# Altium integrated library NSC Switcher.IntLib: 889 symbols (part 7 of 23)
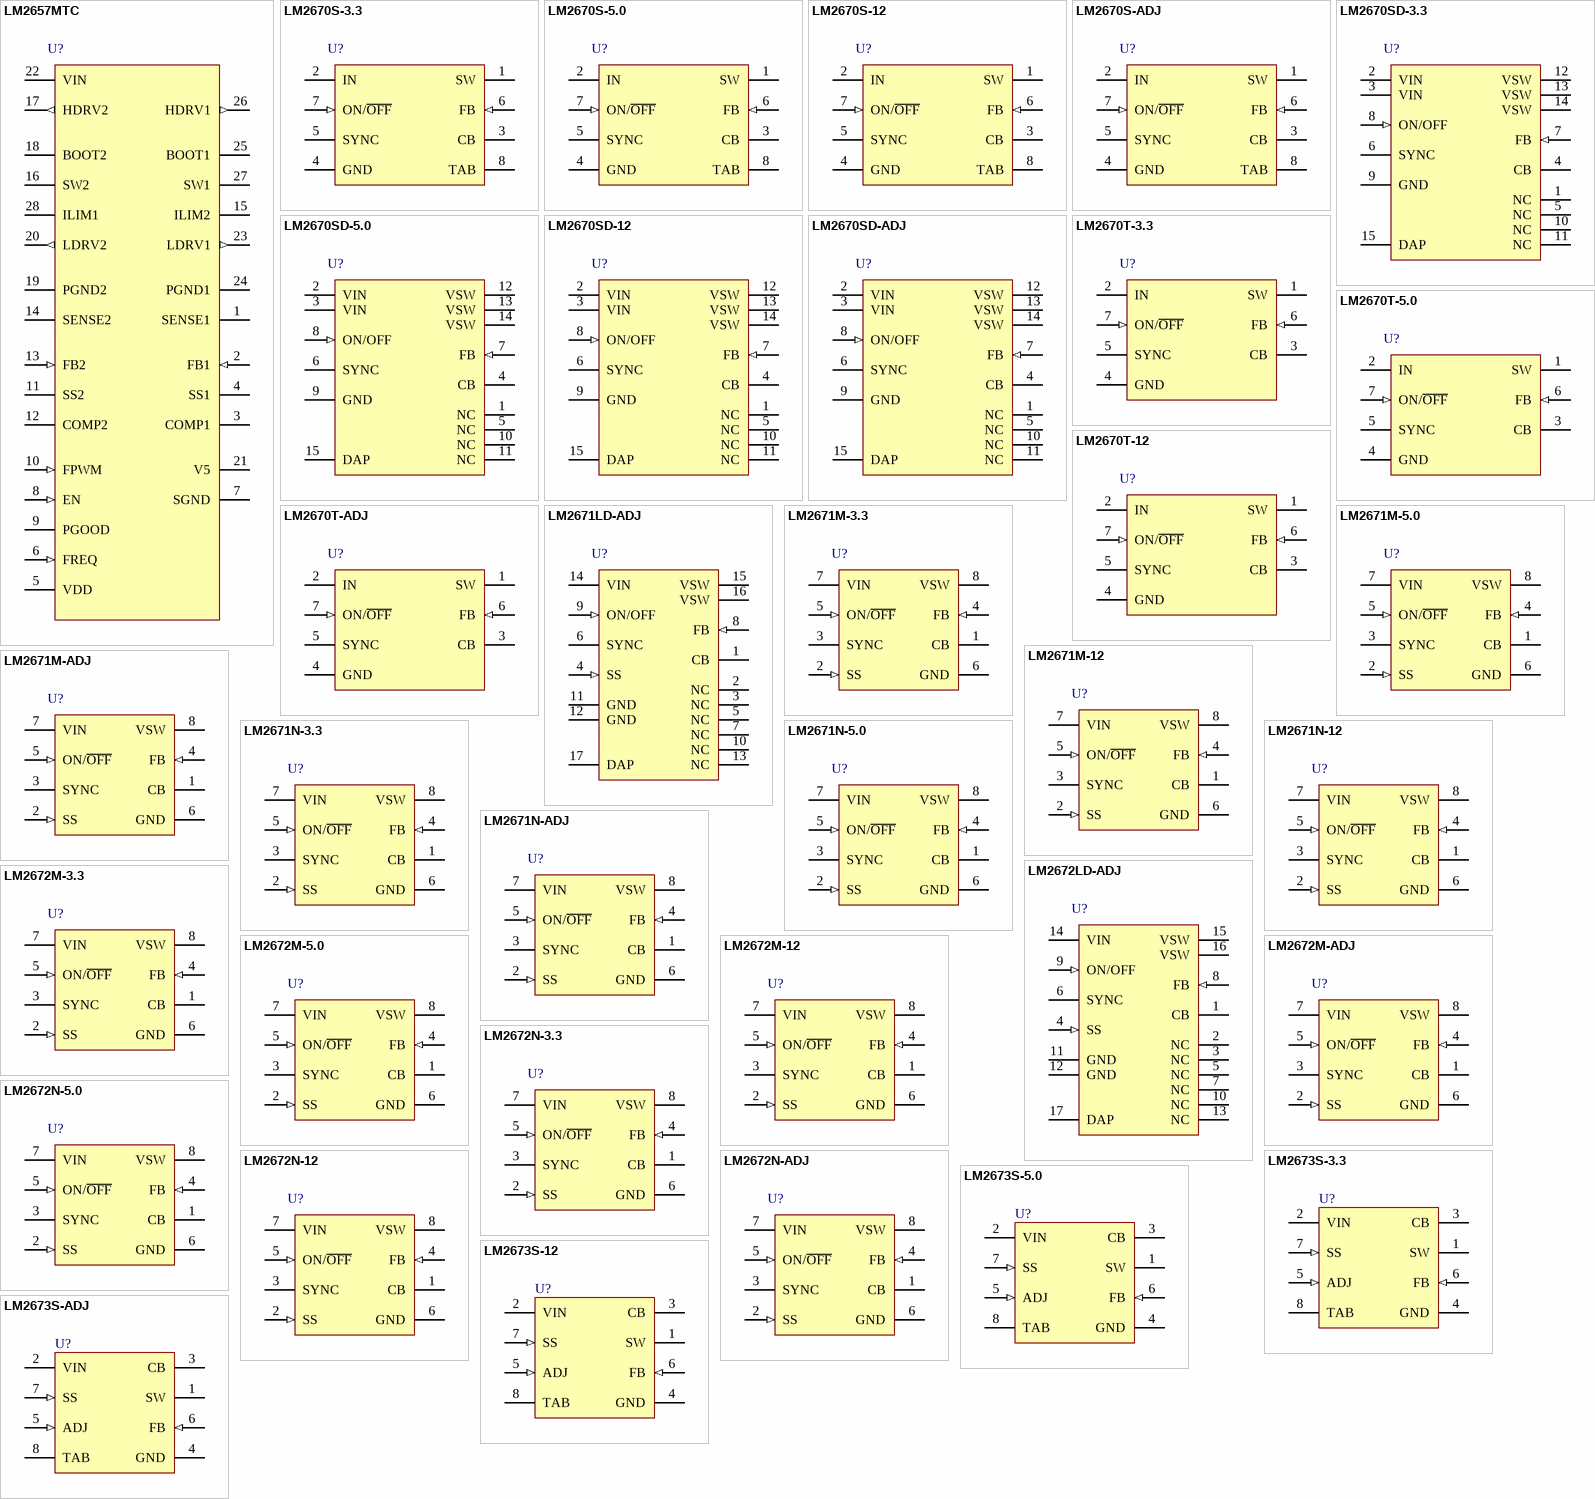
[diagram p33: symbols LM2657MTC to LM2673S-ADJ]

## LM2670SD-ADJ
designator U?
SIMPLE SWITCHER High Efficiency 3A Step-Down Voltage Regulator with Sync; PartNumber: LM2670SD-ADJ; Manufacturer: National Semiconductor; PackageTopMarking: NS*UZXYTT*S0002RB; PowerWise: N; Published: 4-Dec-2008; DatasheetVersion: Feb-2008; PackageVersion: revA, Jul-2003; PackageReference: SRC14A; Publisher: Altium Limited; PackageDescription: LLP, Plastic, Dual, 6 x 5 x 1mm Body, 14 Lead, 0.8mm Pitch, No Pullback; CompType: Switcher; RoHS: Y; PinCount: 14; DigiKeyPartNumber: LM2670SD-ADJCT-ND; ComponentLink1Description: LM2670 Datasheet; ComponentLink1URL: http://www.national.com/ds/LM/LM2670.pdf; ComponentLink2Description: LM2670 Web Page; ComponentLink2URL: http://www.national.com/pf/LM/LM2670.html; ComponentLink3Description: SRC14A Package Page; ComponentLink3URL: http://www.national.com/packaging/folders/src14a.html
footprint SRC14A (SON, 14-Leads, Body 6x5 mm, Pitch 0.8mm, NSC Recommended)
pins: 1 NC, 2 VIN (power), 3 VIN (power), 4 CB, 5 NC, 6 SYNC, 7 FB (in), 8 ON/OFF (in), 9 GND (power), 10 NC, 11 NC, 12 VSW (power), 13 VSW (power), 14 VSW (power), 15 DAP

## LM2670T-3.3
designator U?
SIMPLE SWITCHER High Efficiency 3A Step-Down Voltage Regulator with Sync; PartNumber: LM2670T-3.3; Manufacturer: National Semiconductor; PackageTopMarking: NSUZXYTT*LM2670*T-3.3; PowerWise: N; Published: 4-Dec-2008; DatasheetVersion: Feb-2008; PackageVersion: revC, Apr-1999; PackageReference: TA07B; Publisher: Altium Limited; PackageDescription: TO-220, Molded, .400 x .590 x .180in Body, 7 Lead, .050in Pitch, Staggered; CompType: Switcher; RoHS: Y; PinCount: 7; DigiKeyPartNumber: LM2670T-3.3-ND; Code_JEDEC: TO-220-AB; ComponentLink1Description: LM2670 Datasheet; ComponentLink1URL: http://www.national.com/ds/LM/LM2670.pdf; ComponentLink2Description: LM2670 Web Page; ComponentLink2URL: http://www.national.com/pf/LM/LM2670.html; ComponentLink3Description: TA07B Package Page; ComponentLink3URL: http://www.national.com/packaging/folders/ta07b.html
footprint TA07B (TO, Thru-Hole, Vertical, Heatsink Mounted; 7 Bent Staggered Leads; Pitch 1.27 mm)
pins: 1 SW (power), 2 IN (power), 3 CB, 4 GND (power), 5 SYNC, 6 FB (in), 7 ON/~{OFF} (in)

## LM2670T-5.0
designator U?
SIMPLE SWITCHER High Efficiency 3A Step-Down Voltage Regulator with Sync; PartNumber: LM2670T-5.0; Manufacturer: National Semiconductor; PackageTopMarking: NSUZXYTT*LM2670*T-5.0; PowerWise: N; Published: 4-Dec-2008; DatasheetVersion: Feb-2008; PackageVersion: revC, Apr-1999; PackageReference: TA07B; Publisher: Altium Limited; PackageDescription: TO-220, Molded, .400 x .590 x .180in Body, 7 Lead, .050in Pitch, Staggered; CompType: Switcher; RoHS: O; PinCount: 7; DigiKeyPartNumber: LM2670T-5.0-ND; Code_JEDEC: TO-220-AB; ComponentLink1Description: LM2670 Datasheet; ComponentLink1URL: http://www.national.com/ds/LM/LM2670.pdf; ComponentLink2Description: LM2670 Web Page; ComponentLink2URL: http://www.national.com/pf/LM/LM2670.html; ComponentLink3Description: TA07B Package Page; ComponentLink3URL: http://www.national.com/packaging/folders/ta07b.html
footprint TA07B (TO, Thru-Hole, Vertical, Heatsink Mounted; 7 Bent Staggered Leads; Pitch 1.27 mm)
pins: 1 SW (power), 2 IN (power), 3 CB, 4 GND (power), 5 SYNC, 6 FB (in), 7 ON/~{OFF} (in)

## LM2670T-12
designator U?
SIMPLE SWITCHER High Efficiency 3A Step-Down Voltage Regulator with Sync; PartNumber: LM2670T-12; Manufacturer: National Semiconductor; PackageTopMarking: NSUZXYTT*LM2670*T-12; PowerWise: N; Published: 4-Dec-2008; DatasheetVersion: Feb-2008; PackageVersion: revC, Apr-1999; PackageReference: TA07B; Publisher: Altium Limited; PackageDescription: TO-220, Molded, .400 x .590 x .180in Body, 7 Lead, .050in Pitch, Staggered; CompType: Switcher; RoHS: Y; PinCount: 7; DigiKeyPartNumber: LM2670T-12-ND; Code_JEDEC: TO-220-AB; ComponentLink1Description: LM2670 Datasheet; ComponentLink1URL: http://www.national.com/ds/LM/LM2670.pdf; ComponentLink2Description: LM2670 Web Page; ComponentLink2URL: http://www.national.com/pf/LM/LM2670.html; ComponentLink3Description: TA07B Package Page; ComponentLink3URL: http://www.national.com/packaging/folders/ta07b.html
footprint TA07B (TO, Thru-Hole, Vertical, Heatsink Mounted; 7 Bent Staggered Leads; Pitch 1.27 mm)
pins: 1 SW (power), 2 IN (power), 3 CB, 4 GND (power), 5 SYNC, 6 FB (in), 7 ON/~{OFF} (in)

## LM2670T-ADJ
designator U?
SIMPLE SWITCHER High Efficiency 3A Step-Down Voltage Regulator with Sync; PartNumber: LM2670T-ADJ; Manufacturer: National Semiconductor; PackageTopMarking: NSUZXYTT*LM2670*T-ADJ; PowerWise: N; Published: 4-Dec-2008; DatasheetVersion: Feb-2008; PackageVersion: revC, Apr-1999; PackageReference: TA07B; Publisher: Altium Limited; PackageDescription: TO-220, Molded, .400 x .590 x .180in Body, 7 Lead, .050in Pitch, Staggered; CompType: Switcher; RoHS: Y; PinCount: 7; DigiKeyPartNumber: LM2670T-ADJ-ND; Code_JEDEC: TO-220-AB; ComponentLink1Description: LM2670 Datasheet; ComponentLink1URL: http://www.national.com/ds/LM/LM2670.pdf; ComponentLink2Description: LM2670 Web Page; ComponentLink2URL: http://www.national.com/pf/LM/LM2670.html; ComponentLink3Description: TA07B Package Page; ComponentLink3URL: http://www.national.com/packaging/folders/ta07b.html
footprint TA07B (TO, Thru-Hole, Vertical, Heatsink Mounted; 7 Bent Staggered Leads; Pitch 1.27 mm)
pins: 1 SW (power), 2 IN (power), 3 CB, 4 GND (power), 5 SYNC, 6 FB (in), 7 ON/~{OFF} (in)

## LM2671LD-ADJ
designator U?
SIMPLE SWITCHER Power Converter High Efficiency 500mA Step-Down Voltage Regulator with Features; PartNumber: LM2671LD-ADJ; Manufacturer: National Semiconductor; PackageTopMarking: NS*UZXYTT*S0008B; PowerWise: N; Published: 4-Dec-2008; DatasheetVersion: Apr-2007; PackageVersion: revA, Nov-2000; PackageReference: LDA16A; Publisher: Altium Limited; PackageDescription: LLP, Plastic, Dual, 5 x 5 x 0.75mm Body, 16 Lead, 0.5mm Pitch; CompType: Switcher; RoHS: O; PinCount: 16; DigiKeyPartNumber: LM2671LD-ADJCT-ND; ComponentLink1Description: LM2671 Datasheet; ComponentLink1URL: http://www.national.com/ds/LM/LM2671.pdf; ComponentLink2Description: LM2671 Web Page; ComponentLink2URL: http://www.national.com/pf/LM/LM2671.html; ComponentLink3Description: LDA16A Package Page; ComponentLink3URL: http://www.national.com/packaging/folders/lda16a.html
footprint LDA16A (PSON, 16-Leads, Body 5x5 mm, Pitch 0.5mm, NSC Recommended)
pins: 1 CB, 2 NC, 3 NC, 4 SS (in), 5 NC, 6 SYNC, 7 NC, 8 FB (in), 9 ON/OFF (in), 10 NC, 11 GND (power), 12 GND (power), 13 NC, 14 VIN (power), 15 VSW (power), 16 VSW (power), 17 DAP

## LM2671M-3.3
designator U?
SIMPLE SWITCHER Power Converter High Efficiency 500mA Step-Down Voltage Regulator with Features; PartNumber: LM2671M-3.3; Manufacturer: National Semiconductor; PackageTopMarking: NSZXTT*2671*M3.3; PowerWise: N; Published: 4-Dec-2008; DatasheetVersion: Apr-2007; PackageVersion: revL, Sep-2006; PackageReference: M08A; Publisher: Altium Limited; PackageDescription: SOIC Narrow, 4.9 x 3.9 x 1.45mm, 8 Lead, 1.27mm Pitch; CompType: Switcher; RoHS: O; PinCount: 8; DigiKeyPartNumber: LM2671M-3.3-ND; Code_JEDEC: MS-012-AA; Code_IPC: SOIC127P600-8; ComponentLink1Description: LM2671 Datasheet; ComponentLink1URL: http://www.national.com/ds/LM/LM2671.pdf; ComponentLink2Description: LM2671 Web Page; ComponentLink2URL: http://www.national.com/pf/LM/LM2671.html; ComponentLink3Description: M08A Package Page; ComponentLink3URL: http://www.national.com/packaging/folders/m08a.html
footprint M08A_N (SOIC, 8-Leads, Body 4.9x3.9mm, Pitch 1.27mm, IPC Medium Density)
footprint M08A_L (SOIC, 8-Leads, Body 4.9x3.9mm, Pitch 1.27mm, IPC High Density)
footprint M08A_M (SOIC, 8-Leads, Body 4.9x3.9mm, Pitch 1.27mm, IPC Low Density)
pins: 1 CB, 2 SS (in), 3 SYNC, 4 FB (in), 5 ON/~{OFF} (in), 6 GND (power), 7 VIN (power), 8 VSW (power)

## LM2671M-5.0
designator U?
SIMPLE SWITCHER Power Converter High Efficiency 500mA Step-Down Voltage Regulator with Features; PartNumber: LM2671M-5.0; Manufacturer: National Semiconductor; PackageTopMarking: NSZXTT*2671*M5.0; PowerWise: N; Published: 4-Dec-2008; DatasheetVersion: Apr-2007; PackageVersion: revL, Sep-2006; PackageReference: M08A; Publisher: Altium Limited; PackageDescription: SOIC Narrow, 4.9 x 3.9 x 1.45mm, 8 Lead, 1.27mm Pitch; CompType: Switcher; RoHS: O; PinCount: 8; DigiKeyPartNumber: LM2671M-5.0-ND; Code_JEDEC: MS-012-AA; Code_IPC: SOIC127P600-8; ComponentLink1Description: LM2671 Datasheet; ComponentLink1URL: http://www.national.com/ds/LM/LM2671.pdf; ComponentLink2Description: LM2671 Web Page; ComponentLink2URL: http://www.national.com/pf/LM/LM2671.html; ComponentLink3Description: M08A Package Page; ComponentLink3URL: http://www.national.com/packaging/folders/m08a.html
footprint M08A_N (SOIC, 8-Leads, Body 4.9x3.9mm, Pitch 1.27mm, IPC Medium Density)
footprint M08A_L (SOIC, 8-Leads, Body 4.9x3.9mm, Pitch 1.27mm, IPC High Density)
footprint M08A_M (SOIC, 8-Leads, Body 4.9x3.9mm, Pitch 1.27mm, IPC Low Density)
pins: 1 CB, 2 SS (in), 3 SYNC, 4 FB (in), 5 ON/~{OFF} (in), 6 GND (power), 7 VIN (power), 8 VSW (power)

## LM2671M-12
designator U?
SIMPLE SWITCHER Power Converter High Efficiency 500mA Step-Down Voltage Regulator with Features; PartNumber: LM2671M-12; Manufacturer: National Semiconductor; PackageTopMarking: NSZXTT*2671*M-12; PowerWise: N; Published: 4-Dec-2008; DatasheetVersion: Apr-2007; PackageVersion: revL, Sep-2006; PackageReference: M08A; Publisher: Altium Limited; PackageDescription: SOIC Narrow, 4.9 x 3.9 x 1.45mm, 8 Lead, 1.27mm Pitch; CompType: Switcher; RoHS: O; PinCount: 8; DigiKeyPartNumber: LM2671M-12-ND; Code_JEDEC: MS-012-AA; Code_IPC: SOIC127P600-8; ComponentLink1Description: LM2671 Datasheet; ComponentLink1URL: http://www.national.com/ds/LM/LM2671.pdf; ComponentLink2Description: LM2671 Web Page; ComponentLink2URL: http://www.national.com/pf/LM/LM2671.html; ComponentLink3Description: M08A Package Page; ComponentLink3URL: http://www.national.com/packaging/folders/m08a.html
footprint M08A_N (SOIC, 8-Leads, Body 4.9x3.9mm, Pitch 1.27mm, IPC Medium Density)
footprint M08A_L (SOIC, 8-Leads, Body 4.9x3.9mm, Pitch 1.27mm, IPC High Density)
footprint M08A_M (SOIC, 8-Leads, Body 4.9x3.9mm, Pitch 1.27mm, IPC Low Density)
pins: 1 CB, 2 SS (in), 3 SYNC, 4 FB (in), 5 ON/~{OFF} (in), 6 GND (power), 7 VIN (power), 8 VSW (power)

## LM2671M-ADJ
designator U?
SIMPLE SWITCHER Power Converter High Efficiency 500mA Step-Down Voltage Regulator with Features; PartNumber: LM2671M-ADJ; Manufacturer: National Semiconductor; PackageTopMarking: NSZXTT*2671*MADJ; PowerWise: N; Published: 4-Dec-2008; DatasheetVersion: Apr-2007; PackageVersion: revL, Sep-2006; PackageReference: M08A; Publisher: Altium Limited; PackageDescription: SOIC Narrow, 4.9 x 3.9 x 1.45mm, 8 Lead, 1.27mm Pitch; CompType: Switcher; RoHS: O; PinCount: 8; DigiKeyPartNumber: LM2671M-ADJ-ND; Code_JEDEC: MS-012-AA; Code_IPC: SOIC127P600-8; ComponentLink1Description: LM2671 Datasheet; ComponentLink1URL: http://www.national.com/ds/LM/LM2671.pdf; ComponentLink2Description: LM2671 Web Page; ComponentLink2URL: http://www.national.com/pf/LM/LM2671.html; ComponentLink3Description: M08A Package Page; ComponentLink3URL: http://www.national.com/packaging/folders/m08a.html
footprint M08A_N (SOIC, 8-Leads, Body 4.9x3.9mm, Pitch 1.27mm, IPC Medium Density)
footprint M08A_L (SOIC, 8-Leads, Body 4.9x3.9mm, Pitch 1.27mm, IPC High Density)
footprint M08A_M (SOIC, 8-Leads, Body 4.9x3.9mm, Pitch 1.27mm, IPC Low Density)
pins: 1 CB, 2 SS (in), 3 SYNC, 4 FB (in), 5 ON/~{OFF} (in), 6 GND (power), 7 VIN (power), 8 VSW (power)

## LM2671N-3.3
designator U?
SIMPLE SWITCHER Power Converter High Efficiency 500mA Step-Down Voltage Regulator with Features; PartNumber: LM2671N-3.3; Manufacturer: National Semiconductor; PackageTopMarking: NSUZXYTT*LM2671*N-3.3; PowerWise: N; Published: 4-Dec-2008; DatasheetVersion: Apr-2007; PackageVersion: revG, May-2006; PackageReference: N08E; Publisher: Altium Limited; PackageDescription: MDIP, .365 x .250 x .130in, 8 Lead, .100in Pitch; CompType: Switcher; RoHS: Y; PinCount: 8; DigiKeyPartNumber: LM2671N-3.3-ND; Code_JEDEC: MS-001-BA; ComponentLink1Description: LM2671 Datasheet; ComponentLink1URL: http://www.national.com/ds/LM/LM2671.pdf; ComponentLink2Description: LM2671 Web Page; ComponentLink2URL: http://www.national.com/pf/LM/LM2671.html; ComponentLink3Description: N08E Package Page; ComponentLink3URL: http://www.national.com/packaging/folders/n08e.html
footprint N08E (DIP, 8-Leads, Row Spacing 7.62mm, Pitch 2.54mm, Body 9.91x6.35mm)
pins: 1 CB, 2 SS (in), 3 SYNC, 4 FB (in), 5 ON/~{OFF} (in), 6 GND (power), 7 VIN (power), 8 VSW (power)

## LM2671N-5.0
designator U?
SIMPLE SWITCHER Power Converter High Efficiency 500mA Step-Down Voltage Regulator with Features; PartNumber: LM2671N-5.0; Manufacturer: National Semiconductor; PackageTopMarking: NSUZXYTT*LM2671*N-5.0; PowerWise: N; Published: 4-Dec-2008; DatasheetVersion: Apr-2007; PackageVersion: revG, May-2006; PackageReference: N08E; Publisher: Altium Limited; PackageDescription: MDIP, .365 x .250 x .130in, 8 Lead, .100in Pitch; CompType: Switcher; RoHS: O; PinCount: 8; DigiKeyPartNumber: LM2671N-5.0-ND; Code_JEDEC: MS-001-BA; ComponentLink1Description: LM2671 Datasheet; ComponentLink1URL: http://www.national.com/ds/LM/LM2671.pdf; ComponentLink2Description: LM2671 Web Page; ComponentLink2URL: http://www.national.com/pf/LM/LM2671.html; ComponentLink3Description: N08E Package Page; ComponentLink3URL: http://www.national.com/packaging/folders/n08e.html
footprint N08E (DIP, 8-Leads, Row Spacing 7.62mm, Pitch 2.54mm, Body 9.91x6.35mm)
pins: 1 CB, 2 SS (in), 3 SYNC, 4 FB (in), 5 ON/~{OFF} (in), 6 GND (power), 7 VIN (power), 8 VSW (power)

## LM2671N-12
designator U?
SIMPLE SWITCHER Power Converter High Efficiency 500mA Step-Down Voltage Regulator with Features; PartNumber: LM2671N-12; Manufacturer: National Semiconductor; PackageTopMarking: NSUZXYTT*LM2671*N-12; PowerWise: N; Published: 4-Dec-2008; DatasheetVersion: Apr-2007; PackageVersion: revG, May-2006; PackageReference: N08E; Publisher: Altium Limited; PackageDescription: MDIP, .365 x .250 x .130in, 8 Lead, .100in Pitch; CompType: Switcher; RoHS: Y; PinCount: 8; DigiKeyPartNumber: LM2671N-12-ND; Code_JEDEC: MS-001-BA; ComponentLink1Description: LM2671 Datasheet; ComponentLink1URL: http://www.national.com/ds/LM/LM2671.pdf; ComponentLink2Description: LM2671 Web Page; ComponentLink2URL: http://www.national.com/pf/LM/LM2671.html; ComponentLink3Description: N08E Package Page; ComponentLink3URL: http://www.national.com/packaging/folders/n08e.html
footprint N08E (DIP, 8-Leads, Row Spacing 7.62mm, Pitch 2.54mm, Body 9.91x6.35mm)
pins: 1 CB, 2 SS (in), 3 SYNC, 4 FB (in), 5 ON/~{OFF} (in), 6 GND (power), 7 VIN (power), 8 VSW (power)

## LM2671N-ADJ
designator U?
SIMPLE SWITCHER Power Converter High Efficiency 500mA Step-Down Voltage Regulator with Features; PartNumber: LM2671N-ADJ; Manufacturer: National Semiconductor; PackageTopMarking: NSUZXYTT*LM2671*N-ADJ; PowerWise: N; Published: 4-Dec-2008; DatasheetVersion: Apr-2007; PackageVersion: revG, May-2006; PackageReference: N08E; Publisher: Altium Limited; PackageDescription: MDIP, .365 x .250 x .130in, 8 Lead, .100in Pitch; CompType: Switcher; RoHS: O; PinCount: 8; DigiKeyPartNumber: LM2671N-ADJ-ND; Code_JEDEC: MS-001-BA; ComponentLink1Description: LM2671 Datasheet; ComponentLink1URL: http://www.national.com/ds/LM/LM2671.pdf; ComponentLink2Description: LM2671 Web Page; ComponentLink2URL: http://www.national.com/pf/LM/LM2671.html; ComponentLink3Description: N08E Package Page; ComponentLink3URL: http://www.national.com/packaging/folders/n08e.html
footprint N08E (DIP, 8-Leads, Row Spacing 7.62mm, Pitch 2.54mm, Body 9.91x6.35mm)
pins: 1 CB, 2 SS (in), 3 SYNC, 4 FB (in), 5 ON/~{OFF} (in), 6 GND (power), 7 VIN (power), 8 VSW (power)

## LM2672LD-ADJ
designator U?
SIMPLE SWITCHER Power Converter High Efficiency 1A Step-Down Voltage Regulator with Features; PartNumber: LM2672LD-ADJ; Manufacturer: National Semiconductor; PackageTopMarking: NS*UZXYTT*S0004B; PowerWise: N; Published: 4-Dec-2008; DatasheetVersion: Apr-2007; PackageVersion: revA, Nov-2000; PackageReference: LDA16A; Publisher: Altium Limited; PackageDescription: LLP, Plastic, Dual, 5 x 5 x 0.75mm Body, 16 Lead, 0.5mm Pitch; CompType: Switcher; RoHS: O; PinCount: 16; DigiKeyPartNumber: LM2672LD-ADJCT-ND; ComponentLink1Description: LM2672 Datasheet; ComponentLink1URL: http://www.national.com/ds/LM/LM2672.pdf; ComponentLink2Description: LM2672 Web Page; ComponentLink2URL: http://www.national.com/pf/LM/LM2672.html; ComponentLink3Description: LDA16A Package Page; ComponentLink3URL: http://www.national.com/packaging/folders/lda16a.html
footprint LDA16A (PSON, 16-Leads, Body 5x5 mm, Pitch 0.5mm, NSC Recommended)
pins: 1 CB, 2 NC, 3 NC, 4 SS (in), 5 NC, 6 SYNC, 7 NC, 8 FB (in), 9 ON/OFF (in), 10 NC, 11 GND (power), 12 GND (power), 13 NC, 14 VIN (power), 15 VSW (power), 16 VSW (power), 17 DAP

## LM2672M-3.3
designator U?
SIMPLE SWITCHER Power Converter High Efficiency 1A Step-Down Voltage Regulator with Features; PartNumber: LM2672M-3.3; Manufacturer: National Semiconductor; PackageTopMarking: NSZXTT*2672*M3.3; PowerWise: N; Published: 4-Dec-2008; DatasheetVersion: Apr-2007; PackageVersion: revL, Sep-2006; PackageReference: M08A; Publisher: Altium Limited; PackageDescription: SOIC Narrow, 4.9 x 3.9 x 1.45mm, 8 Lead, 1.27mm Pitch; CompType: Switcher; RoHS: O; PinCount: 8; DigiKeyPartNumber: LM2672M-3.3-ND; Code_JEDEC: MS-012-AA; Code_IPC: SOIC127P600-8; ComponentLink1Description: LM2672 Datasheet; ComponentLink1URL: http://www.national.com/ds/LM/LM2672.pdf; ComponentLink2Description: LM2672 Web Page; ComponentLink2URL: http://www.national.com/pf/LM/LM2672.html; ComponentLink3Description: M08A Package Page; ComponentLink3URL: http://www.national.com/packaging/folders/m08a.html
footprint M08A_N (SOIC, 8-Leads, Body 4.9x3.9mm, Pitch 1.27mm, IPC Medium Density)
footprint M08A_L (SOIC, 8-Leads, Body 4.9x3.9mm, Pitch 1.27mm, IPC High Density)
footprint M08A_M (SOIC, 8-Leads, Body 4.9x3.9mm, Pitch 1.27mm, IPC Low Density)
pins: 1 CB, 2 SS (in), 3 SYNC, 4 FB (in), 5 ON/~{OFF} (in), 6 GND (power), 7 VIN (power), 8 VSW (power)

## LM2672M-5.0
designator U?
SIMPLE SWITCHER Power Converter High Efficiency 1A Step-Down Voltage Regulator with Features; PartNumber: LM2672M-5.0; Manufacturer: National Semiconductor; PackageTopMarking: NSZXTT*2672*M5.0; PowerWise: N; Published: 4-Dec-2008; DatasheetVersion: Apr-2007; PackageVersion: revL, Sep-2006; PackageReference: M08A; Publisher: Altium Limited; PackageDescription: SOIC Narrow, 4.9 x 3.9 x 1.45mm, 8 Lead, 1.27mm Pitch; CompType: Switcher; RoHS: O; PinCount: 8; DigiKeyPartNumber: LM2672M-5.0-ND; Code_JEDEC: MS-012-AA; Code_IPC: SOIC127P600-8; ComponentLink1Description: LM2672 Datasheet; ComponentLink1URL: http://www.national.com/ds/LM/LM2672.pdf; ComponentLink2Description: LM2672 Web Page; ComponentLink2URL: http://www.national.com/pf/LM/LM2672.html; ComponentLink3Description: M08A Package Page; ComponentLink3URL: http://www.national.com/packaging/folders/m08a.html
footprint M08A_N (SOIC, 8-Leads, Body 4.9x3.9mm, Pitch 1.27mm, IPC Medium Density)
footprint M08A_L (SOIC, 8-Leads, Body 4.9x3.9mm, Pitch 1.27mm, IPC High Density)
footprint M08A_M (SOIC, 8-Leads, Body 4.9x3.9mm, Pitch 1.27mm, IPC Low Density)
pins: 1 CB, 2 SS (in), 3 SYNC, 4 FB (in), 5 ON/~{OFF} (in), 6 GND (power), 7 VIN (power), 8 VSW (power)

## LM2672M-12
designator U?
SIMPLE SWITCHER Power Converter High Efficiency 1A Step-Down Voltage Regulator with Features; PartNumber: LM2672M-12; Manufacturer: National Semiconductor; PackageTopMarking: NSZXTT*2672*M-12; PowerWise: N; Published: 4-Dec-2008; DatasheetVersion: Apr-2007; PackageVersion: revL, Sep-2006; PackageReference: M08A; Publisher: Altium Limited; PackageDescription: SOIC Narrow, 4.9 x 3.9 x 1.45mm, 8 Lead, 1.27mm Pitch; CompType: Switcher; RoHS: O; PinCount: 8; DigiKeyPartNumber: LM2672M-12-ND; Code_JEDEC: MS-012-AA; Code_IPC: SOIC127P600-8; ComponentLink1Description: LM2672 Datasheet; ComponentLink1URL: http://www.national.com/ds/LM/LM2672.pdf; ComponentLink2Description: LM2672 Web Page; ComponentLink2URL: http://www.national.com/pf/LM/LM2672.html; ComponentLink3Description: M08A Package Page; ComponentLink3URL: http://www.national.com/packaging/folders/m08a.html
footprint M08A_N (SOIC, 8-Leads, Body 4.9x3.9mm, Pitch 1.27mm, IPC Medium Density)
footprint M08A_L (SOIC, 8-Leads, Body 4.9x3.9mm, Pitch 1.27mm, IPC High Density)
footprint M08A_M (SOIC, 8-Leads, Body 4.9x3.9mm, Pitch 1.27mm, IPC Low Density)
pins: 1 CB, 2 SS (in), 3 SYNC, 4 FB (in), 5 ON/~{OFF} (in), 6 GND (power), 7 VIN (power), 8 VSW (power)

## LM2672M-ADJ
designator U?
SIMPLE SWITCHER Power Converter High Efficiency 1A Step-Down Voltage Regulator with Features; PartNumber: LM2672M-ADJ; Manufacturer: National Semiconductor; PackageTopMarking: NSZXTT*2672*MADJ; PowerWise: N; Published: 4-Dec-2008; DatasheetVersion: Apr-2007; PackageVersion: revL, Sep-2006; PackageReference: M08A; Publisher: Altium Limited; PackageDescription: SOIC Narrow, 4.9 x 3.9 x 1.45mm, 8 Lead, 1.27mm Pitch; CompType: Switcher; RoHS: O; PinCount: 8; DigiKeyPartNumber: LM2672M-ADJ-ND; Code_JEDEC: MS-012-AA; Code_IPC: SOIC127P600-8; ComponentLink1Description: LM2672 Datasheet; ComponentLink1URL: http://www.national.com/ds/LM/LM2672.pdf; ComponentLink2Description: LM2672 Web Page; ComponentLink2URL: http://www.national.com/pf/LM/LM2672.html; ComponentLink3Description: M08A Package Page; ComponentLink3URL: http://www.national.com/packaging/folders/m08a.html
footprint M08A_N (SOIC, 8-Leads, Body 4.9x3.9mm, Pitch 1.27mm, IPC Medium Density)
footprint M08A_L (SOIC, 8-Leads, Body 4.9x3.9mm, Pitch 1.27mm, IPC High Density)
footprint M08A_M (SOIC, 8-Leads, Body 4.9x3.9mm, Pitch 1.27mm, IPC Low Density)
pins: 1 CB, 2 SS (in), 3 SYNC, 4 FB (in), 5 ON/~{OFF} (in), 6 GND (power), 7 VIN (power), 8 VSW (power)

## LM2672N-3.3
designator U?
SIMPLE SWITCHER Power Converter High Efficiency 1A Step-Down Voltage Regulator with Features; PartNumber: LM2672N-3.3; Manufacturer: National Semiconductor; PackageTopMarking: NSUZXYTT*LM2672*N-3.3; PowerWise: N; Published: 4-Dec-2008; DatasheetVersion: Apr-2007; PackageVersion: revG, May-2006; PackageReference: N08E; Publisher: Altium Limited; PackageDescription: MDIP, .365 x .250 x .130in, 8 Lead, .100in Pitch; CompType: Switcher; RoHS: Y; PinCount: 8; DigiKeyPartNumber: LM2672N-3.3-ND; Code_JEDEC: MS-001-BA; ComponentLink1Description: LM2672 Datasheet; ComponentLink1URL: http://www.national.com/ds/LM/LM2672.pdf; ComponentLink2Description: LM2672 Web Page; ComponentLink2URL: http://www.national.com/pf/LM/LM2672.html; ComponentLink3Description: N08E Package Page; ComponentLink3URL: http://www.national.com/packaging/folders/n08e.html
footprint N08E (DIP, 8-Leads, Row Spacing 7.62mm, Pitch 2.54mm, Body 9.91x6.35mm)
pins: 1 CB, 2 SS (in), 3 SYNC, 4 FB (in), 5 ON/~{OFF} (in), 6 GND (power), 7 VIN (power), 8 VSW (power)

## LM2672N-5.0
designator U?
SIMPLE SWITCHER Power Converter High Efficiency 1A Step-Down Voltage Regulator with Features; PartNumber: LM2672N-5.0; Manufacturer: National Semiconductor; PackageTopMarking: NSUZXYTT*LM2672*N-5.0; PowerWise: N; Published: 4-Dec-2008; DatasheetVersion: Apr-2007; PackageVersion: revG, May-2006; PackageReference: N08E; Publisher: Altium Limited; PackageDescription: MDIP, .365 x .250 x .130in, 8 Lead, .100in Pitch; CompType: Switcher; RoHS: Y; PinCount: 8; DigiKeyPartNumber: LM2672N-5.0-ND; Code_JEDEC: MS-001-BA; ComponentLink1Description: LM2672 Datasheet; ComponentLink1URL: http://www.national.com/ds/LM/LM2672.pdf; ComponentLink2Description: LM2672 Web Page; ComponentLink2URL: http://www.national.com/pf/LM/LM2672.html; ComponentLink3Description: N08E Package Page; ComponentLink3URL: http://www.national.com/packaging/folders/n08e.html
footprint N08E (DIP, 8-Leads, Row Spacing 7.62mm, Pitch 2.54mm, Body 9.91x6.35mm)
pins: 1 CB, 2 SS (in), 3 SYNC, 4 FB (in), 5 ON/~{OFF} (in), 6 GND (power), 7 VIN (power), 8 VSW (power)

## LM2672N-12
designator U?
SIMPLE SWITCHER Power Converter High Efficiency 1A Step-Down Voltage Regulator with Features; PartNumber: LM2672N-12; Manufacturer: National Semiconductor; PackageTopMarking: NSUZXYTT*LM2672*N-12; PowerWise: N; Published: 4-Dec-2008; DatasheetVersion: Apr-2007; PackageVersion: revG, May-2006; PackageReference: N08E; Publisher: Altium Limited; PackageDescription: MDIP, .365 x .250 x .130in, 8 Lead, .100in Pitch; CompType: Switcher; RoHS: O; PinCount: 8; DigiKeyPartNumber: LM2672N-12-ND; Code_JEDEC: MS-001-BA; ComponentLink1Description: LM2672 Datasheet; ComponentLink1URL: http://www.national.com/ds/LM/LM2672.pdf; ComponentLink2Description: LM2672 Web Page; ComponentLink2URL: http://www.national.com/pf/LM/LM2672.html; ComponentLink3Description: N08E Package Page; ComponentLink3URL: http://www.national.com/packaging/folders/n08e.html
footprint N08E (DIP, 8-Leads, Row Spacing 7.62mm, Pitch 2.54mm, Body 9.91x6.35mm)
pins: 1 CB, 2 SS (in), 3 SYNC, 4 FB (in), 5 ON/~{OFF} (in), 6 GND (power), 7 VIN (power), 8 VSW (power)

## LM2672N-ADJ
designator U?
SIMPLE SWITCHER Power Converter High Efficiency 1A Step-Down Voltage Regulator with Features; PartNumber: LM2672N-ADJ; Manufacturer: National Semiconductor; PackageTopMarking: NSUZXYTT*LM2672*N-ADJ; PowerWise: N; Published: 4-Dec-2008; DatasheetVersion: Apr-2007; PackageVersion: revG, May-2006; PackageReference: N08E; Publisher: Altium Limited; PackageDescription: MDIP, .365 x .250 x .130in, 8 Lead, .100in Pitch; CompType: Switcher; RoHS: O; PinCount: 8; DigiKeyPartNumber: LM2672N-ADJ-ND; Code_JEDEC: MS-001-BA; ComponentLink1Description: LM2672 Datasheet; ComponentLink1URL: http://www.national.com/ds/LM/LM2672.pdf; ComponentLink2Description: LM2672 Web Page; ComponentLink2URL: http://www.national.com/pf/LM/LM2672.html; ComponentLink3Description: N08E Package Page; ComponentLink3URL: http://www.national.com/packaging/folders/n08e.html
footprint N08E (DIP, 8-Leads, Row Spacing 7.62mm, Pitch 2.54mm, Body 9.91x6.35mm)
pins: 1 CB, 2 SS (in), 3 SYNC, 4 FB (in), 5 ON/~{OFF} (in), 6 GND (power), 7 VIN (power), 8 VSW (power)

## LM2673S-3.3
designator U?
3A Step-Down Voltage Regulator with Adjustable Current Limit; PartNumber: LM2673S-3.3; Manufacturer: National Semiconductor; CompType: Switcher; PackageTopMarking: NSUZXYTT*LM2673*S-3.3; PowerWise: N; Published: 4-Dec-2008; DatasheetVersion: Feb-2008; PackageVersion: revE, Jul-2003; PackageReference: TS7B; Publisher: Altium Limited; PackageDescription: TO-263, Molded, .400 x .390 x .180in Body, 7 Lead, .050in Pitch, Surface Mount; RoHS: O; PinCount: 7; DigiKeyPartNumber: LM2673S-3.3-ND; Code_JEDEC: MO-169-AC; ComponentLink1Description: LM2673 Datasheet; ComponentLink1URL: http://www.national.com/ds/LM/LM2673.pdf; ComponentLink2Description: LM2673 Web Page; ComponentLink2URL: http://www.national.com/pf/LM/LM2673.html; ComponentLink3Description: TS7B Package Page; ComponentLink3URL: http://www.national.com/packaging/folders/ts7b.html
footprint TS7B_N (D2-PAK, 8-Leads, Body 8.6x10.2mm, Pitch 1.27mm, Lead Span 14.1mm, IPC Medium Density)
footprint TS7B_L (D2-PAK, 8-Leads, Body 8.6x10.2mm, Pitch 1.27mm, Lead Span 14.1mm, IPC High Density)
footprint TS7B_M (D2-PAK, 8-Leads, Body 8.6x10.2mm, Pitch 1.27mm, Lead Span 14.1mm, IPC Low Density)
footprint TS7B_M (D2-PAK, 8-Leads, Body 8.6x10.2mm, Pitch 1.27mm, Lead Span 14.1mm, IPC Low Density)
pins: 1 SW (power), 2 VIN (power), 3 CB, 4 GND (power), 5 ADJ (in), 6 FB (in), 7 SS (in), 8 TAB (power)

## LM2673S-5.0
designator U?
3A Step-Down Voltage Regulator with Adjustable Current Limit; PartNumber: LM2673S-5.0; Manufacturer: National Semiconductor; CompType: Switcher; PackageTopMarking: NSUZXYTT*LM2673*S-5.0; PowerWise: N; Published: 4-Dec-2008; DatasheetVersion: Feb-2008; PackageVersion: revE, Jul-2003; PackageReference: TS7B; Publisher: Altium Limited; PackageDescription: TO-263, Molded, .400 x .390 x .180in Body, 7 Lead, .050in Pitch, Surface Mount; RoHS: O; PinCount: 7; DigiKeyPartNumber: LM2673S-5.0-ND; Code_JEDEC: MO-169-AC; ComponentLink1Description: LM2673 Datasheet; ComponentLink1URL: http://www.national.com/ds/LM/LM2673.pdf; ComponentLink2Description: LM2673 Web Page; ComponentLink2URL: http://www.national.com/pf/LM/LM2673.html; ComponentLink3Description: TS7B Package Page; ComponentLink3URL: http://www.national.com/packaging/folders/ts7b.html
footprint TS7B_N (D2-PAK, 8-Leads, Body 8.6x10.2mm, Pitch 1.27mm, Lead Span 14.1mm, IPC Medium Density)
footprint TS7B_L (D2-PAK, 8-Leads, Body 8.6x10.2mm, Pitch 1.27mm, Lead Span 14.1mm, IPC High Density)
footprint TS7B_M (D2-PAK, 8-Leads, Body 8.6x10.2mm, Pitch 1.27mm, Lead Span 14.1mm, IPC Low Density)
footprint TS7B_M (D2-PAK, 8-Leads, Body 8.6x10.2mm, Pitch 1.27mm, Lead Span 14.1mm, IPC Low Density)
pins: 1 SW (power), 2 VIN (power), 3 CB, 4 GND (power), 5 ADJ (in), 6 FB (in), 7 SS (in), 8 TAB (power)

## LM2673S-12
designator U?
3A Step-Down Voltage Regulator with Adjustable Current Limit; PartNumber: LM2673S-12; Manufacturer: National Semiconductor; CompType: Switcher; PackageTopMarking: NSUZXYTT*LM2673*S-12; PowerWise: N; Published: 4-Dec-2008; DatasheetVersion: Feb-2008; PackageVersion: revE, Jul-2003; PackageReference: TS7B; Publisher: Altium Limited; PackageDescription: TO-263, Molded, .400 x .390 x .180in Body, 7 Lead, .050in Pitch, Surface Mount; RoHS: O; PinCount: 7; DigiKeyPartNumber: LM2673S-12-ND; Code_JEDEC: MO-169-AC; ComponentLink1Description: LM2673 Datasheet; ComponentLink1URL: http://www.national.com/ds/LM/LM2673.pdf; ComponentLink2Description: LM2673 Web Page; ComponentLink2URL: http://www.national.com/pf/LM/LM2673.html; ComponentLink3Description: TS7B Package Page; ComponentLink3URL: http://www.national.com/packaging/folders/ts7b.html
footprint TS7B_N (D2-PAK, 8-Leads, Body 8.6x10.2mm, Pitch 1.27mm, Lead Span 14.1mm, IPC Medium Density)
footprint TS7B_L (D2-PAK, 8-Leads, Body 8.6x10.2mm, Pitch 1.27mm, Lead Span 14.1mm, IPC High Density)
footprint TS7B_M (D2-PAK, 8-Leads, Body 8.6x10.2mm, Pitch 1.27mm, Lead Span 14.1mm, IPC Low Density)
footprint TS7B_M (D2-PAK, 8-Leads, Body 8.6x10.2mm, Pitch 1.27mm, Lead Span 14.1mm, IPC Low Density)
pins: 1 SW (power), 2 VIN (power), 3 CB, 4 GND (power), 5 ADJ (in), 6 FB (in), 7 SS (in), 8 TAB (power)

## LM2673S-ADJ
designator U?
3A Step-Down Voltage Regulator with Adjustable Current Limit; PartNumber: LM2673S-ADJ; Manufacturer: National Semiconductor; CompType: Switcher; PackageTopMarking: NSUZXYTT*LM2673*S-ADJ; PowerWise: N; Published: 4-Dec-2008; DatasheetVersion: Feb-2008; PackageVersion: revE, Jul-2003; PackageReference: TS7B; Publisher: Altium Limited; PackageDescription: TO-263, Molded, .400 x .390 x .180in Body, 7 Lead, .050in Pitch, Surface Mount; RoHS: O; PinCount: 7; DigiKeyPartNumber: LM2673S-ADJ-ND; Code_JEDEC: MO-169-AC; ComponentLink1Description: LM2673 Datasheet; ComponentLink1URL: http://www.national.com/ds/LM/LM2673.pdf; ComponentLink2Description: LM2673 Web Page; ComponentLink2URL: http://www.national.com/pf/LM/LM2673.html; ComponentLink3Description: TS7B Package Page; ComponentLink3URL: http://www.national.com/packaging/folders/ts7b.html
footprint TS7B_N (D2-PAK, 8-Leads, Body 8.6x10.2mm, Pitch 1.27mm, Lead Span 14.1mm, IPC Medium Density)
footprint TS7B_L (D2-PAK, 8-Leads, Body 8.6x10.2mm, Pitch 1.27mm, Lead Span 14.1mm, IPC High Density)
footprint TS7B_M (D2-PAK, 8-Leads, Body 8.6x10.2mm, Pitch 1.27mm, Lead Span 14.1mm, IPC Low Density)
footprint TS7B_M (D2-PAK, 8-Leads, Body 8.6x10.2mm, Pitch 1.27mm, Lead Span 14.1mm, IPC Low Density)
pins: 1 SW (power), 2 VIN (power), 3 CB, 4 GND (power), 5 ADJ (in), 6 FB (in), 7 SS (in), 8 TAB (power)

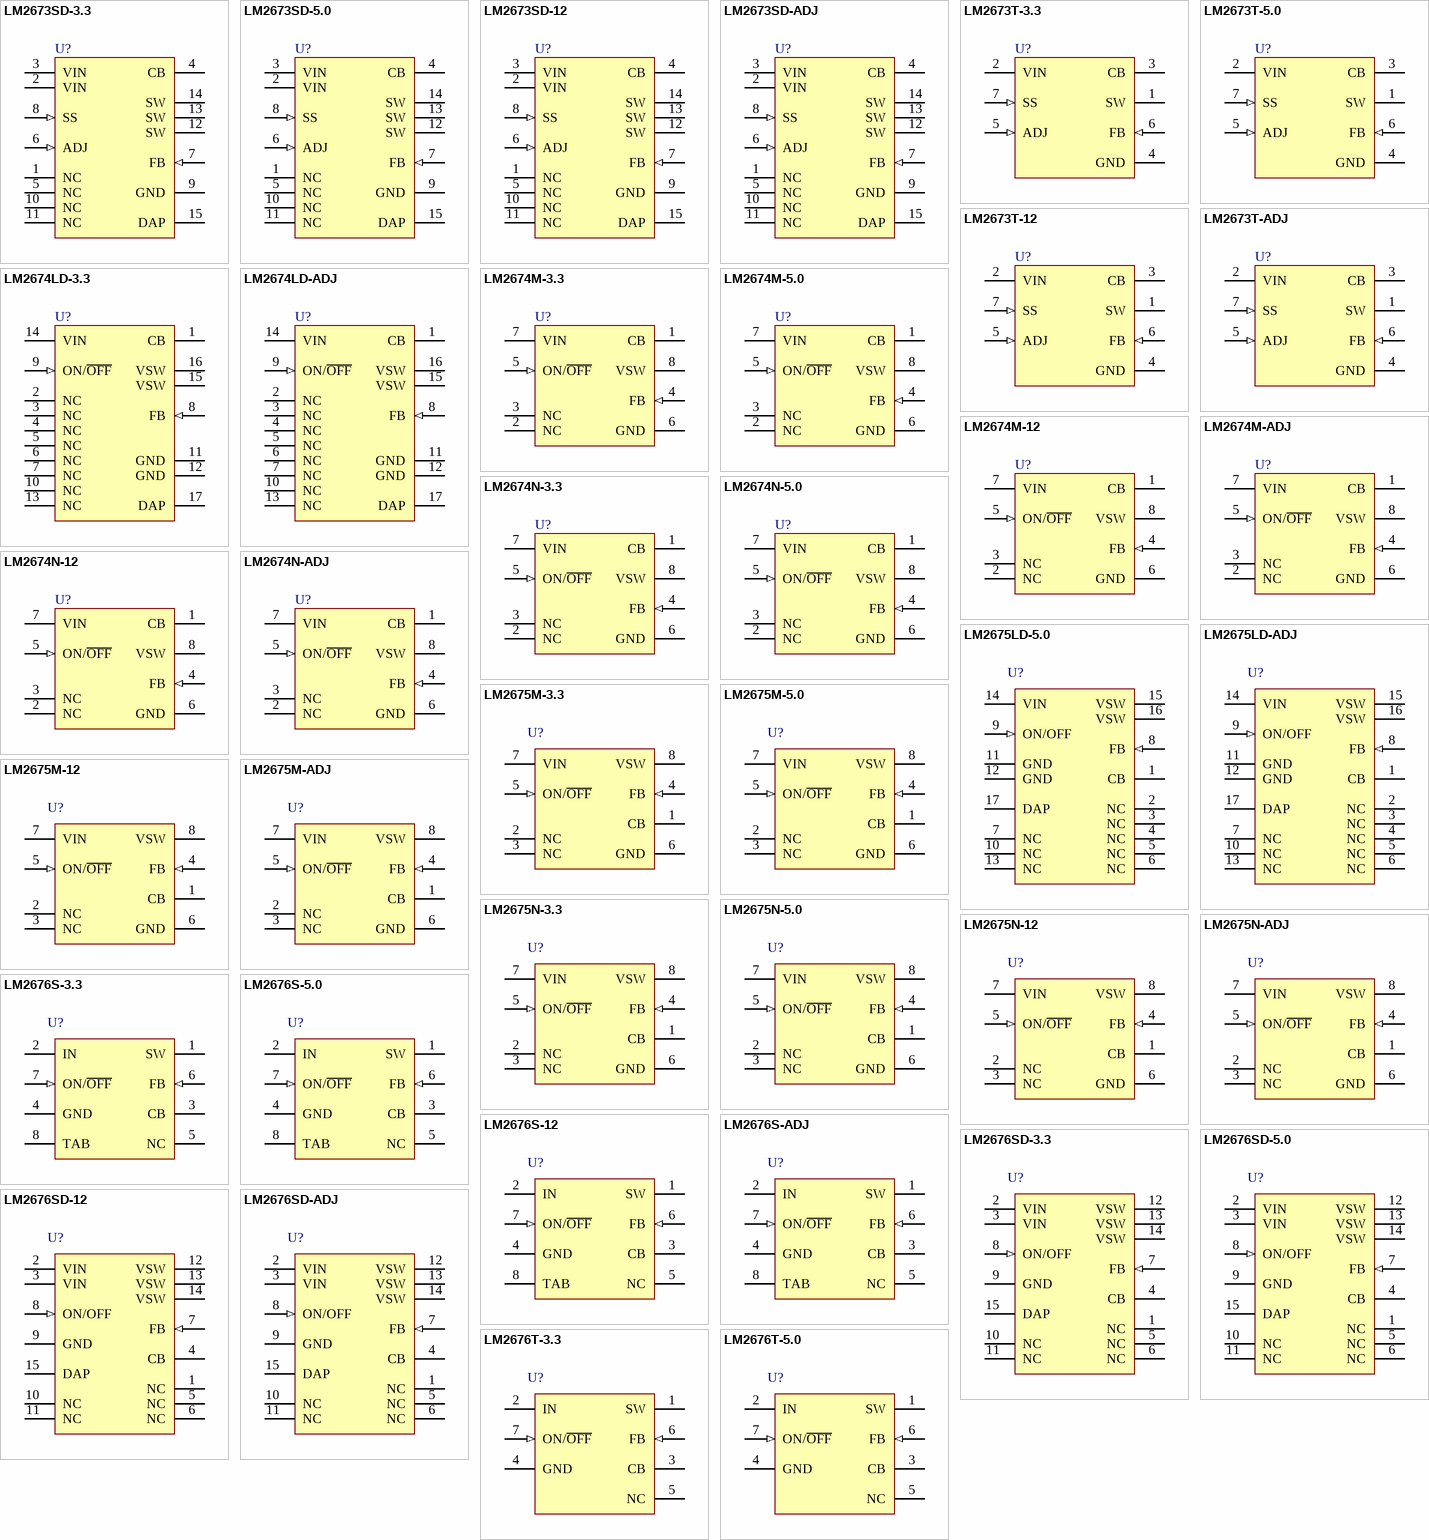
[diagram p8: symbols LM2673SD-3.3 to LM2676T-5.0]

## LM2673SD-3.3
designator U?
3A Step-Down Voltage Regulator with Adjustable Current Limit; PartNumber: LM2673SD-3.3; Manufacturer: National Semiconductor; CompType: Switcher; PackageTopMarking: NS*UZXYTT*S0002TB; PowerWise: N; Published: 4-Dec-2008; DatasheetVersion: Feb-2008; PackageVersion: revA, Jul-2003; PackageReference: SRC14A; Publisher: Altium Limited; PackageDescription: LLP, Plastic, Dual, 6 x 5 x 1mm Body, 14 Lead, 0.8mm Pitch, No Pullback; RoHS: Y; PinCount: 14; DigiKeyPartNumber: LM2673SD-3.3CT-ND; ComponentLink1Description: LM2673 Datasheet; ComponentLink1URL: http://www.national.com/ds/LM/LM2673.pdf; ComponentLink2Description: LM2673 Web Page; ComponentLink2URL: http://www.national.com/pf/LM/LM2673.html; ComponentLink3Description: SRC14A Package Page; ComponentLink3URL: http://www.national.com/packaging/folders/src14a.html
footprint SRC14A (SON, 14-Leads, Body 6x5 mm, Pitch 0.8mm, NSC Recommended)
pins: 1 NC, 2 VIN (power), 3 VIN (power), 4 CB, 5 NC, 6 ADJ (in), 7 FB (in), 8 SS (in), 9 GND (power), 10 NC, 11 NC, 12 SW (power), 13 SW (power), 14 SW (power), 15 DAP (power)

## LM2673SD-5.0
designator U?
3A Step-Down Voltage Regulator with Adjustable Current Limit; PartNumber: LM2673SD-5.0; Manufacturer: National Semiconductor; CompType: Switcher; PackageTopMarking: NS*UZXYTT*S0002UB; PowerWise: N; Published: 4-Dec-2008; DatasheetVersion: Feb-2008; PackageVersion: revA, Jul-2003; PackageReference: SRC14A; Publisher: Altium Limited; PackageDescription: LLP, Plastic, Dual, 6 x 5 x 1mm Body, 14 Lead, 0.8mm Pitch, No Pullback; RoHS: O; PinCount: 14; DigiKeyPartNumber: LM2673SD-5.0CT-ND; ComponentLink1Description: LM2673 Datasheet; ComponentLink1URL: http://www.national.com/ds/LM/LM2673.pdf; ComponentLink2Description: LM2673 Web Page; ComponentLink2URL: http://www.national.com/pf/LM/LM2673.html; ComponentLink3Description: SRC14A Package Page; ComponentLink3URL: http://www.national.com/packaging/folders/src14a.html
footprint SRC14A (SON, 14-Leads, Body 6x5 mm, Pitch 0.8mm, NSC Recommended)
pins: 1 NC, 2 VIN (power), 3 VIN (power), 4 CB, 5 NC, 6 ADJ (in), 7 FB (in), 8 SS (in), 9 GND (power), 10 NC, 11 NC, 12 SW (power), 13 SW (power), 14 SW (power), 15 DAP (power)

## LM2673SD-12
designator U?
3A Step-Down Voltage Regulator with Adjustable Current Limit; PartNumber: LM2673SD-12; Manufacturer: National Semiconductor; CompType: Switcher; PackageTopMarking: NS*UZXYTT*S0002SB; PowerWise: N; Published: 4-Dec-2008; DatasheetVersion: Feb-2008; PackageVersion: revA, Jul-2003; PackageReference: SRC14A; Publisher: Altium Limited; PackageDescription: LLP, Plastic, Dual, 6 x 5 x 1mm Body, 14 Lead, 0.8mm Pitch, No Pullback; RoHS: Y; PinCount: 14; DigiKeyPartNumber: LM2673SD-12CT-ND; ComponentLink1Description: LM2673 Datasheet; ComponentLink1URL: http://www.national.com/ds/LM/LM2673.pdf; ComponentLink2Description: LM2673 Web Page; ComponentLink2URL: http://www.national.com/pf/LM/LM2673.html; ComponentLink3Description: SRC14A Package Page; ComponentLink3URL: http://www.national.com/packaging/folders/src14a.html
footprint SRC14A (SON, 14-Leads, Body 6x5 mm, Pitch 0.8mm, NSC Recommended)
pins: 1 NC, 2 VIN (power), 3 VIN (power), 4 CB, 5 NC, 6 ADJ (in), 7 FB (in), 8 SS (in), 9 GND (power), 10 NC, 11 NC, 12 SW (power), 13 SW (power), 14 SW (power), 15 DAP (power)

## LM2673SD-ADJ
designator U?
3A Step-Down Voltage Regulator with Adjustable Current Limit; PartNumber: LM2673SD-ADJ; Manufacturer: National Semiconductor; CompType: Switcher; PackageTopMarking: NS*UZXYTT*S0002VB; PowerWise: N; Published: 4-Dec-2008; DatasheetVersion: Feb-2008; PackageVersion: revA, Jul-2003; PackageReference: SRC14A; Publisher: Altium Limited; PackageDescription: LLP, Plastic, Dual, 6 x 5 x 1mm Body, 14 Lead, 0.8mm Pitch, No Pullback; RoHS: Y; PinCount: 14; DigiKeyPartNumber: LM2673SD-ADJCT-ND; ComponentLink1Description: LM2673 Datasheet; ComponentLink1URL: http://www.national.com/ds/LM/LM2673.pdf; ComponentLink2Description: LM2673 Web Page; ComponentLink2URL: http://www.national.com/pf/LM/LM2673.html; ComponentLink3Description: SRC14A Package Page; ComponentLink3URL: http://www.national.com/packaging/folders/src14a.html
footprint SRC14A (SON, 14-Leads, Body 6x5 mm, Pitch 0.8mm, NSC Recommended)
pins: 1 NC, 2 VIN (power), 3 VIN (power), 4 CB, 5 NC, 6 ADJ (in), 7 FB (in), 8 SS (in), 9 GND (power), 10 NC, 11 NC, 12 SW (power), 13 SW (power), 14 SW (power), 15 DAP (power)

## LM2673T-3.3
designator U?
3A Step-Down Voltage Regulator with Adjustable Current Limit; PartNumber: LM2673T-3.3; Manufacturer: National Semiconductor; CompType: Switcher; PackageTopMarking: NSUZXYTT*LM2673*T-3.3; PowerWise: N; Published: 4-Dec-2008; DatasheetVersion: Feb-2008; PackageVersion: revC, Apr-1999; PackageReference: TA07B; Publisher: Altium Limited; PackageDescription: TO-220, Molded, .400 x .590 x .180in Body, 7 Lead, .050in Pitch, Staggered; RoHS: Y; PinCount: 7; DigiKeyPartNumber: LM2673T-3.3-ND; Code_JEDEC: TO-220-AB; ComponentLink1Description: LM2673 Datasheet; ComponentLink1URL: http://www.national.com/ds/LM/LM2673.pdf; ComponentLink2Description: LM2673 Web Page; ComponentLink2URL: http://www.national.com/pf/LM/LM2673.html; ComponentLink3Description: TA07B Package Page; ComponentLink3URL: http://www.national.com/packaging/folders/ta07b.html
footprint TA07B (TO, Thru-Hole, Vertical, Heatsink Mounted; 7 Bent Staggered Leads; Pitch 1.27 mm)
pins: 1 SW (power), 2 VIN (power), 3 CB, 4 GND (power), 5 ADJ (in), 6 FB (in), 7 SS (in)

## LM2673T-5.0
designator U?
3A Step-Down Voltage Regulator with Adjustable Current Limit; PartNumber: LM2673T-5.0; Manufacturer: National Semiconductor; CompType: Switcher; PackageTopMarking: NSUZXYTT*LM2673*T-5.0; PowerWise: N; Published: 4-Dec-2008; DatasheetVersion: Feb-2008; PackageVersion: revC, Apr-1999; PackageReference: TA07B; Publisher: Altium Limited; PackageDescription: TO-220, Molded, .400 x .590 x .180in Body, 7 Lead, .050in Pitch, Staggered; RoHS: O; PinCount: 7; DigiKeyPartNumber: LM2673T-5.0-ND; Code_JEDEC: TO-220-AB; ComponentLink1Description: LM2673 Datasheet; ComponentLink1URL: http://www.national.com/ds/LM/LM2673.pdf; ComponentLink2Description: LM2673 Web Page; ComponentLink2URL: http://www.national.com/pf/LM/LM2673.html; ComponentLink3Description: TA07B Package Page; ComponentLink3URL: http://www.national.com/packaging/folders/ta07b.html
footprint TA07B (TO, Thru-Hole, Vertical, Heatsink Mounted; 7 Bent Staggered Leads; Pitch 1.27 mm)
pins: 1 SW (power), 2 VIN (power), 3 CB, 4 GND (power), 5 ADJ (in), 6 FB (in), 7 SS (in)

## LM2673T-12
designator U?
3A Step-Down Voltage Regulator with Adjustable Current Limit; PartNumber: LM2673T-12; Manufacturer: National Semiconductor; CompType: Switcher; PackageTopMarking: NSUZXYTT*LM2673*T-12; PowerWise: N; Published: 4-Dec-2008; DatasheetVersion: Feb-2008; PackageVersion: revC, Apr-1999; PackageReference: TA07B; Publisher: Altium Limited; PackageDescription: TO-220, Molded, .400 x .590 x .180in Body, 7 Lead, .050in Pitch, Staggered; RoHS: Y; PinCount: 7; DigiKeyPartNumber: LM2673T-12-ND; Code_JEDEC: TO-220-AB; ComponentLink1Description: LM2673 Datasheet; ComponentLink1URL: http://www.national.com/ds/LM/LM2673.pdf; ComponentLink2Description: LM2673 Web Page; ComponentLink2URL: http://www.national.com/pf/LM/LM2673.html; ComponentLink3Description: TA07B Package Page; ComponentLink3URL: http://www.national.com/packaging/folders/ta07b.html
footprint TA07B (TO, Thru-Hole, Vertical, Heatsink Mounted; 7 Bent Staggered Leads; Pitch 1.27 mm)
pins: 1 SW (power), 2 VIN (power), 3 CB, 4 GND (power), 5 ADJ (in), 6 FB (in), 7 SS (in)

## LM2673T-ADJ
designator U?
3A Step-Down Voltage Regulator with Adjustable Current Limit; PartNumber: LM2673T-ADJ; Manufacturer: National Semiconductor; CompType: Switcher; PackageTopMarking: NSUZXYTT*LM2673*T-ADJ; PowerWise: N; Published: 4-Dec-2008; DatasheetVersion: Feb-2008; PackageVersion: revC, Apr-1999; PackageReference: TA07B; Publisher: Altium Limited; PackageDescription: TO-220, Molded, .400 x .590 x .180in Body, 7 Lead, .050in Pitch, Staggered; RoHS: O; PinCount: 7; DigiKeyPartNumber: LM2673T-ADJ-ND; Code_JEDEC: TO-220-AB; ComponentLink1Description: LM2673 Datasheet; ComponentLink1URL: http://www.national.com/ds/LM/LM2673.pdf; ComponentLink2Description: LM2673 Web Page; ComponentLink2URL: http://www.national.com/pf/LM/LM2673.html; ComponentLink3Description: TA07B Package Page; ComponentLink3URL: http://www.national.com/packaging/folders/ta07b.html
footprint TA07B (TO, Thru-Hole, Vertical, Heatsink Mounted; 7 Bent Staggered Leads; Pitch 1.27 mm)
pins: 1 SW (power), 2 VIN (power), 3 CB, 4 GND (power), 5 ADJ (in), 6 FB (in), 7 SS (in)

## LM2674LD-3.3
designator U?
SIMPLE SWITCHER; Power Converter High Efficiency 500mA Step-Down Voltage Regulator; PartNumber: LM2674LD-3.3; Manufacturer: National Semiconductor; PackageTopMarking: NS*UZXYTT*S000AB; PowerWise: N; Published: 4-Dec-2008; DatasheetVersion: Feb-2005; PackageVersion: revA, Nov-2000; PackageReference: LDA16A; Publisher: Altium Limited; PackageDescription: LLP, Plastic, Dual, 5 x 5 x 0.75mm Body, 16 Lead, 0.5mm Pitch; CompType: Switcher; RoHS: Y; PinCount: 16; DigiKeyPartNumber: LM2674LD-3.3CT-ND; ComponentLink1Description: LM2674 Datasheet; ComponentLink1URL: http://www.national.com/ds/LM/LM2674.pdf; ComponentLink2Description: LM2674 Web Page; ComponentLink2URL: http://www.national.com/pf/LM/LM2674.html; ComponentLink3Description: LDA16A Package Page; ComponentLink3URL: http://www.national.com/packaging/folders/lda16a.html
footprint LDA16A (PSON, 16-Leads, Body 5x5 mm, Pitch 0.5mm, NSC Recommended)
pins: 1 CB, 2 NC, 3 NC, 4 NC, 5 NC, 6 NC, 7 NC, 8 FB (in), 9 ON/~{OFF} (in), 10 NC, 11 GND (power), 12 GND (power), 13 NC, 14 VIN (power), 15 VSW (power), 16 VSW (power), 17 DAP (power)

## LM2674LD-ADJ
designator U?
SIMPLE SWITCHER; Power Converter High Efficiency 500mA Step-Down Voltage Regulator; PartNumber: LM2674LD-ADJ; Manufacturer: National Semiconductor; PackageTopMarking: NS*UZXYTT*S000CB; PowerWise: N; Published: 4-Dec-2008; DatasheetVersion: Feb-2005; PackageVersion: revA, Nov-2000; PackageReference: LDA16A; Publisher: Altium Limited; PackageDescription: LLP, Plastic, Dual, 5 x 5 x 0.75mm Body, 16 Lead, 0.5mm Pitch; CompType: Switcher; RoHS: Y; PinCount: 16; DigiKeyPartNumber: LM2674LD-ADJCT-ND; ComponentLink1Description: LM2674 Datasheet; ComponentLink1URL: http://www.national.com/ds/LM/LM2674.pdf; ComponentLink2Description: LM2674 Web Page; ComponentLink2URL: http://www.national.com/pf/LM/LM2674.html; ComponentLink3Description: LDA16A Package Page; ComponentLink3URL: http://www.national.com/packaging/folders/lda16a.html
footprint LDA16A (PSON, 16-Leads, Body 5x5 mm, Pitch 0.5mm, NSC Recommended)
pins: 1 CB, 2 NC, 3 NC, 4 NC, 5 NC, 6 NC, 7 NC, 8 FB (in), 9 ON/~{OFF} (in), 10 NC, 11 GND (power), 12 GND (power), 13 NC, 14 VIN (power), 15 VSW (power), 16 VSW (power), 17 DAP (power)

## LM2674M-3.3
designator U?
SIMPLE SWITCHER; Power Converter High Efficiency 500mA Step-Down Voltage Regulator; PartNumber: LM2674M-3.3; Manufacturer: National Semiconductor; PackageTopMarking: NSZXTT*2674*M3.3; PowerWise: N; Published: 4-Dec-2008; DatasheetVersion: Feb-2005; PackageVersion: revL, Sep-2006; PackageReference: M08A; Publisher: Altium Limited; PackageDescription: SOIC Narrow, 4.9 x 3.9 x 1.45mm, 8 Lead, 1.27mm Pitch; CompType: Switcher; RoHS: O; PinCount: 8; DigiKeyPartNumber: LM2674M-3.3-ND; Code_JEDEC: MS-012-AA; Code_IPC: SOIC127P600-8; ComponentLink1Description: LM2674 Datasheet; ComponentLink1URL: http://www.national.com/ds/LM/LM2674.pdf; ComponentLink2Description: LM2674 Web Page; ComponentLink2URL: http://www.national.com/pf/LM/LM2674.html; ComponentLink3Description: M08A Package Page; ComponentLink3URL: http://www.national.com/packaging/folders/m08a.html
footprint M08A_N (SOIC, 8-Leads, Body 4.9x3.9mm, Pitch 1.27mm, IPC Medium Density)
footprint M08A_L (SOIC, 8-Leads, Body 4.9x3.9mm, Pitch 1.27mm, IPC High Density)
footprint M08A_M (SOIC, 8-Leads, Body 4.9x3.9mm, Pitch 1.27mm, IPC Low Density)
pins: 1 CB, 2 NC, 3 NC, 4 FB (in), 5 ON/~{OFF} (in), 6 GND (power), 7 VIN (power), 8 VSW (power)

## LM2674M-5.0
designator U?
SIMPLE SWITCHER; Power Converter High Efficiency 500mA Step-Down Voltage Regulator; PartNumber: LM2674M-5.0; Manufacturer: National Semiconductor; PackageTopMarking: NSZXTT*2674*M5.0; PowerWise: N; Published: 4-Dec-2008; DatasheetVersion: Feb-2005; PackageVersion: revL, Sep-2006; PackageReference: M08A; Publisher: Altium Limited; PackageDescription: SOIC Narrow, 4.9 x 3.9 x 1.45mm, 8 Lead, 1.27mm Pitch; CompType: Switcher; RoHS: O; PinCount: 8; DigiKeyPartNumber: LM2674M-5.0-ND; Code_JEDEC: MS-012-AA; Code_IPC: SOIC127P600-8; ComponentLink1Description: LM2674 Datasheet; ComponentLink1URL: http://www.national.com/ds/LM/LM2674.pdf; ComponentLink2Description: LM2674 Web Page; ComponentLink2URL: http://www.national.com/pf/LM/LM2674.html; ComponentLink3Description: M08A Package Page; ComponentLink3URL: http://www.national.com/packaging/folders/m08a.html
footprint M08A_N (SOIC, 8-Leads, Body 4.9x3.9mm, Pitch 1.27mm, IPC Medium Density)
footprint M08A_L (SOIC, 8-Leads, Body 4.9x3.9mm, Pitch 1.27mm, IPC High Density)
footprint M08A_M (SOIC, 8-Leads, Body 4.9x3.9mm, Pitch 1.27mm, IPC Low Density)
pins: 1 CB, 2 NC, 3 NC, 4 FB (in), 5 ON/~{OFF} (in), 6 GND (power), 7 VIN (power), 8 VSW (power)

## LM2674M-12
designator U?
SIMPLE SWITCHER; Power Converter High Efficiency 500mA Step-Down Voltage Regulator; PartNumber: LM2674M-12; Manufacturer: National Semiconductor; PackageTopMarking: NSZXTT*2674*M-12; PowerWise: N; Published: 4-Dec-2008; DatasheetVersion: Feb-2005; PackageVersion: revL, Sep-2006; PackageReference: M08A; Publisher: Altium Limited; PackageDescription: SOIC Narrow, 4.9 x 3.9 x 1.45mm, 8 Lead, 1.27mm Pitch; CompType: Switcher; RoHS: O; PinCount: 8; DigiKeyPartNumber: LM2674M-12-ND; Code_JEDEC: MS-012-AA; Code_IPC: SOIC127P600-8; ComponentLink1Description: LM2674 Datasheet; ComponentLink1URL: http://www.national.com/ds/LM/LM2674.pdf; ComponentLink2Description: LM2674 Web Page; ComponentLink2URL: http://www.national.com/pf/LM/LM2674.html; ComponentLink3Description: M08A Package Page; ComponentLink3URL: http://www.national.com/packaging/folders/m08a.html
footprint M08A_N (SOIC, 8-Leads, Body 4.9x3.9mm, Pitch 1.27mm, IPC Medium Density)
footprint M08A_L (SOIC, 8-Leads, Body 4.9x3.9mm, Pitch 1.27mm, IPC High Density)
footprint M08A_M (SOIC, 8-Leads, Body 4.9x3.9mm, Pitch 1.27mm, IPC Low Density)
pins: 1 CB, 2 NC, 3 NC, 4 FB (in), 5 ON/~{OFF} (in), 6 GND (power), 7 VIN (power), 8 VSW (power)

## LM2674M-ADJ
designator U?
SIMPLE SWITCHER; Power Converter High Efficiency 500mA Step-Down Voltage Regulator; PartNumber: LM2674M-ADJ; Manufacturer: National Semiconductor; PackageTopMarking: NSZXTT*2674*MADJ; PowerWise: N; Published: 4-Dec-2008; DatasheetVersion: Feb-2005; PackageVersion: revL, Sep-2006; PackageReference: M08A; Publisher: Altium Limited; PackageDescription: SOIC Narrow, 4.9 x 3.9 x 1.45mm, 8 Lead, 1.27mm Pitch; CompType: Switcher; RoHS: O; PinCount: 8; DigiKeyPartNumber: LM2674M-ADJ-ND; Code_JEDEC: MS-012-AA; Code_IPC: SOIC127P600-8; ComponentLink1Description: LM2674 Datasheet; ComponentLink1URL: http://www.national.com/ds/LM/LM2674.pdf; ComponentLink2Description: LM2674 Web Page; ComponentLink2URL: http://www.national.com/pf/LM/LM2674.html; ComponentLink3Description: M08A Package Page; ComponentLink3URL: http://www.national.com/packaging/folders/m08a.html
footprint M08A_N (SOIC, 8-Leads, Body 4.9x3.9mm, Pitch 1.27mm, IPC Medium Density)
footprint M08A_L (SOIC, 8-Leads, Body 4.9x3.9mm, Pitch 1.27mm, IPC High Density)
footprint M08A_M (SOIC, 8-Leads, Body 4.9x3.9mm, Pitch 1.27mm, IPC Low Density)
pins: 1 CB, 2 NC, 3 NC, 4 FB (in), 5 ON/~{OFF} (in), 6 GND (power), 7 VIN (power), 8 VSW (power)

## LM2674N-3.3
designator U?
SIMPLE SWITCHER; Power Converter High Efficiency 500mA Step-Down Voltage Regulator; PartNumber: LM2674N-3.3; Manufacturer: National Semiconductor; PackageTopMarking: NSUZXYTT*LM2674*N-3.3; PowerWise: N; Published: 4-Dec-2008; DatasheetVersion: Feb-2005; PackageVersion: revG, May-2006; PackageReference: N08E; Publisher: Altium Limited; PackageDescription: MDIP, .365 x .250 x .130in, 8 Lead, .100in Pitch; CompType: Switcher; RoHS: Y; PinCount: 8; DigiKeyPartNumber: LM2674N-3.3-ND; Code_JEDEC: MS-001-BA; ComponentLink1Description: LM2674 Datasheet; ComponentLink1URL: http://www.national.com/ds/LM/LM2674.pdf; ComponentLink2Description: LM2674 Web Page; ComponentLink2URL: http://www.national.com/pf/LM/LM2674.html; ComponentLink3Description: N08E Package Page; ComponentLink3URL: http://www.national.com/packaging/folders/n08e.html
footprint N08E (DIP, 8-Leads, Row Spacing 7.62mm, Pitch 2.54mm, Body 9.91x6.35mm)
pins: 1 CB, 2 NC, 3 NC, 4 FB (in), 5 ON/~{OFF} (in), 6 GND (power), 7 VIN (power), 8 VSW (power)

## LM2674N-5.0
designator U?
SIMPLE SWITCHER; Power Converter High Efficiency 500mA Step-Down Voltage Regulator; PartNumber: LM2674N-5.0; Manufacturer: National Semiconductor; PackageTopMarking: NSUZXYTT*LM2674*N-5.0; PowerWise: N; Published: 4-Dec-2008; DatasheetVersion: Feb-2005; PackageVersion: revG, May-2006; PackageReference: N08E; Publisher: Altium Limited; PackageDescription: MDIP, .365 x .250 x .130in, 8 Lead, .100in Pitch; CompType: Switcher; RoHS: O; PinCount: 8; DigiKeyPartNumber: LM2674N-5.0-ND; Code_JEDEC: MS-001-BA; ComponentLink1Description: LM2674 Datasheet; ComponentLink1URL: http://www.national.com/ds/LM/LM2674.pdf; ComponentLink2Description: LM2674 Web Page; ComponentLink2URL: http://www.national.com/pf/LM/LM2674.html; ComponentLink3Description: N08E Package Page; ComponentLink3URL: http://www.national.com/packaging/folders/n08e.html
footprint N08E (DIP, 8-Leads, Row Spacing 7.62mm, Pitch 2.54mm, Body 9.91x6.35mm)
pins: 1 CB, 2 NC, 3 NC, 4 FB (in), 5 ON/~{OFF} (in), 6 GND (power), 7 VIN (power), 8 VSW (power)